# Altium schematic symbol library elec_array.SchLib: 3 symbols
Pins are listed as number, name and electrical type; pins without a type are passive.

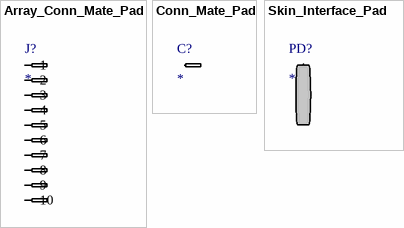
[diagram p0: symbols Array_Conn_Mate_Pad to Skin_Interface_Pad]

## Array_Conn_Mate_Pad
designator J?
footprint ARRAY_CONN_MATE_PAD
pins: 1, 2, 3, 4, 5, 6, 7, 8, 9, 10

## Conn_Mate_Pad
designator C?
footprint Conn_Mate_Pad
pins: 1

## Skin_Interface_Pad
designator PD?
footprint Skin_Interface_Pad
pins: 1